# Altium schematic symbol library SCH - POWER - LINEAR VREG - TI TPS79401_DGN_8.SchLib: 1 symbol
Pins are listed as number, name and electrical type; pins without a type are passive.

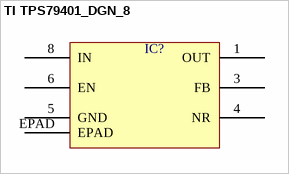
[diagram p0: symbol TI TPS79401_DGN_8]

## TI TPS79401_DGN_8
designator IC?  (value not drawn)
pins: 1 OUT, 3 FB, 4 NR, 5 GND, 6 EN, 8 IN, EPAD